# Altium footprint library KF2510_母座.PcbLib: 10 footprints
Each footprint in its own frame and in the unit in brackets; x right, y up, seen from the top. Pads: shape width x height; smd on the part's side, far side on the other; paste and mask are expansions set on the pad; w line width, h text height; cw(c..) or ccw(c..) is an arc to the next point about the centre after c.
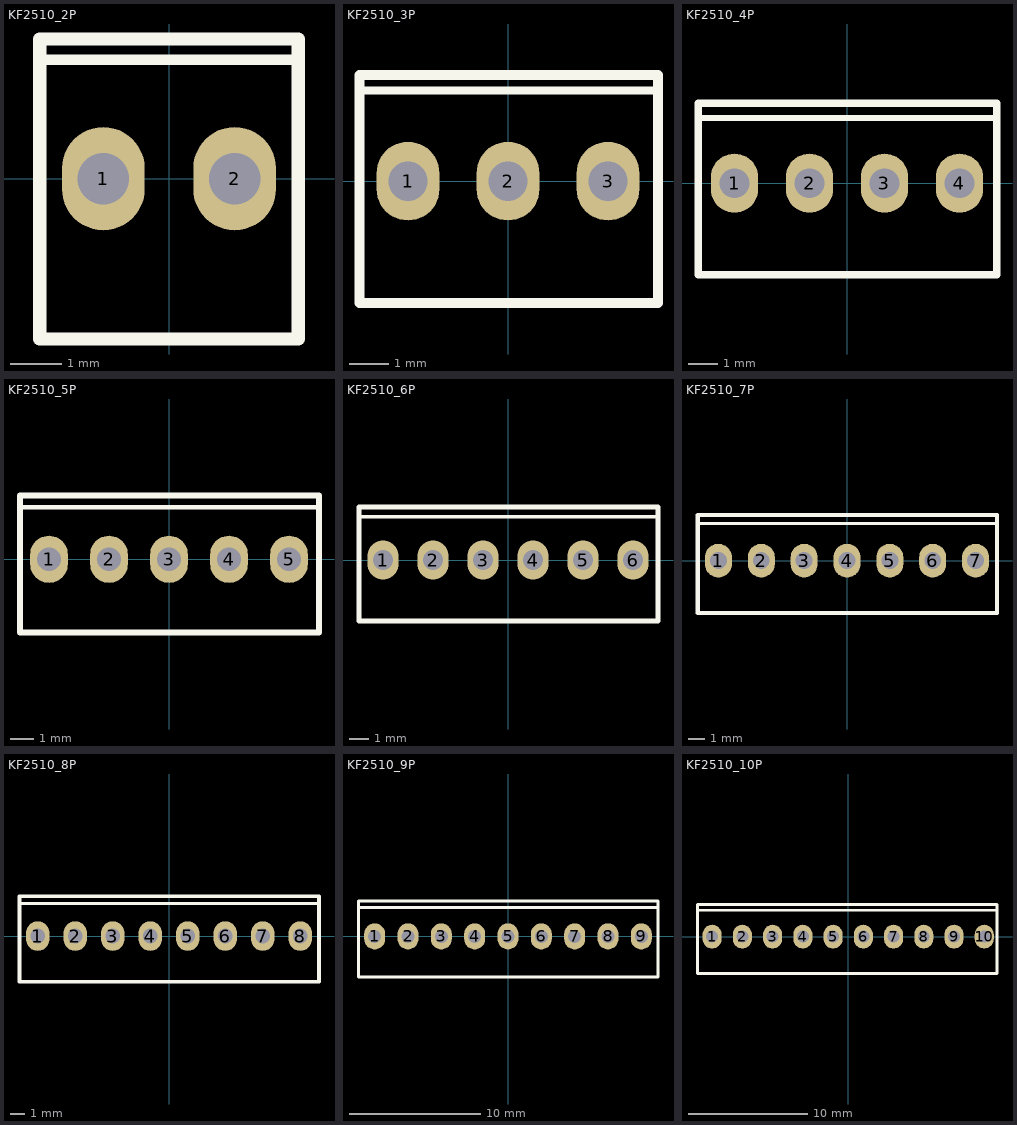
[diagram p0: the footprints below, top view; thin cyan lines are the x and y axes]

## KF2510_2P [mm]
pads (2):
  oval 1.6x2 hole 1: 1(-1.27,0) 2(1.27,0)
Top Overlay:
  lines w0.2: -2.5,2.3 2.5,2.3
  lines w0.254: -2.5,-3.1 2.5,-3.1 2.5,2.7 -2.5,2.7 -2.5,-3.1
Mechanical 15:
  lines w0.1: -2.54,-3.1 2.54,-3.1 2.54,2.7 -2.54,2.7 -2.54,-3.1
3D body "Header-KF2510-2.54-2.step": height 11.73, standoff -2.55, extent -2.6,-3.175 2.6,2.725

## KF2510_3P [mm]
pads (3):
  oval 1.6x2 hole 1: 1(-2.54,0) 2(0,0) 3(2.54,0)
Top Overlay:
  lines w0.2: -3.77,2.3 3.81,2.3
  lines w0.254: -3.77,-3.1 3.81,-3.1 3.81,2.7 -3.77,2.7 -3.77,-3.1
Mechanical 15:
  lines w0.1: -3.81,-3.1 3.81,-3.1 3.81,2.7 -3.81,2.7 -3.81,-3.1
3D body "Header-KF2510-2.54-3.step": height 11.73, standoff -3, extent -3.895,-3.2 3.905,2.7

## KF2510_4P [mm]
pads (4):
  oval 1.6x2 hole 1: 1(-3.81,0) 2(-1.27,0) 3(1.27,0) 4(3.81,0)
Top Overlay:
  lines w0.2: -5.04,2.2 5.08,2.2
  lines w0.254: -5.04,-3.1 5.08,-3.1 5.08,2.7 -5.04,2.7 -5.04,-3.1
Mechanical 15:
  lines w0.1: -5.08,-3.1 5.08,-3.1 5.08,2.7 -5.08,2.7 -5.08,-3.1
3D body "Header-KF2510-2.54-4.step": height 11.73, standoff -2.55, extent -5.09,-3.2 5.07,2.7

## KF2510_5P [mm]
pads (5):
  oval 1.6x2 hole 1: 1(-5.08,0) 2(-2.54,0) 3(0,0) 4(2.54,0) 5(5.08,0)
Top Overlay:
  lines w0.2: -6.31,2.2 6.35,2.2
  lines w0.254: -6.31,-3.1 -6.31,2.7 6.35,2.7 6.35,-3.1 -6.31,-3.1
Mechanical 15:
  lines w0.1: -6.35,-3.1 -6.35,2.7 6.35,2.7 6.35,-3.1 -6.35,-3.1
3D body "Header-KF2510-2.54-3.step": height 11.73, standoff -3, extent -1.325,-3.175 6.475,2.725
3D body "Header-KF2510-2.54-2.step": height 11.73, standoff -2.55, extent -6.4,-3.175 -1.2,2.725

## KF2510_6P [mm]
pads (6):
  oval 1.6x2 hole 1: 1(-6.35,0) 2(-3.81,0) 3(-1.27,0) 4(1.27,0) 5(3.81,0) 6(6.35,0)
Top Overlay:
  lines w0.2: -7.58,2.2 7.62,2.2
  lines w0.254: -7.58,-3.1 -7.58,2.7 7.62,2.7 7.62,-3.1 -7.58,-3.1
Mechanical 15:
  lines w0.1: -7.62,-3.1 -7.62,2.7 7.62,2.7 7.62,-3.1 -7.62,-3.1
3D body "Header-KF2510-2.54-3.step": height 11.73, standoff -3, extent -7.68,-3.15 0.12,2.75
3D body "Header-KF2510-2.54-3.step": height 11.73, standoff -3, extent -0.075,-3.15 7.725,2.75

## KF2510_7P [mm]
pads (7):
  oval 1.6x2 hole 1: 1(-7.62,0) 2(-5.08,0) 3(-2.54,0) 4(0,0) 5(2.54,0) 6(5.08,0) 7(7.62,0)
Top Overlay:
  lines w0.2: -8.85,2.2 8.89,2.2
  lines w0.254: -8.85,-3.1 -8.85,2.7 8.89,2.7 8.89,-3.1 -8.85,-3.1
Mechanical 15:
  lines w0.1: -8.89,-3.1 -8.89,2.7 8.89,2.7 8.89,-3.1 -8.89,-3.1
3D body "Header-KF2510-2.54-3.step": height 11.73, standoff -3, extent 1.175,-3.175 8.975,2.725
3D body "Header-KF2510-2.54-4.step": height 11.73, standoff -2.55, extent -8.91,-3.175 1.25,2.725

## KF2510_8P [mm]
pads (8):
  oval 1.6x2 hole 1: 1(-8.89,0) 2(-6.35,0) 3(-3.81,0) 4(-1.27,0) 5(1.27,0) 6(3.81,0) 7(6.35,0) 8(8.89,0)
Top Overlay:
  lines w0.2: -10.12,2.2 10.06,2.2
  lines w0.254: -10.12,-3.1 10.16,-3.1 10.16,2.7 -10.12,2.7 -10.12,-3.1
Mechanical 15:
  lines w0.1: -10.16,-3.1 10.16,-3.1 10.16,2.7 -10.16,2.7 -10.16,-3.1
3D body "Header-KF2510-2.54-4.step": height 11.73, standoff -2.55, extent -0.025,-3.2 10.135,2.7
3D body "User Library-WF-4.step": height 11.73, standoff -2.55, extent -10.16,-3.2 0,2.7

## KF2510_9P [mm]
pads (9):
  oval 1.6x2 hole 1: 1(-10.16,0) 2(-7.62,0) 3(-5.08,0) 4(-2.54,0) 5(0,0) 6(2.54,0) 7(5.08,0) 8(7.62,0) 9(10.16,0)
Top Overlay:
  lines w0.2: -11.39,2.2 11.43,2.2
  lines w0.254: -11.39,-3.1 11.43,-3.1 11.43,2.7 -11.39,2.7 -11.39,-3.1
Mechanical 15:
  lines w0.1: -11.43,-3.1 11.43,-3.1 11.43,2.7 -11.43,2.7 -11.43,-3.1
3D body "User Library-WF-4.step": height 11.73, standoff -2.55, extent -11.43,-3.2 -1.27,2.7
3D body "Header-KF2510-2.54-2.step": height 11.73, standoff -2.55, extent -1.305,-3.2 3.895,2.7
3D body "Header-KF2510-2.54-3.step": height 11.73, standoff -3, extent 3.725,-3.2 11.525,2.7

## KF2510_10P [mm]
pads (10):
  oval 1.6x2 hole 1: 1(-11.43,0) 2(-8.89,0) 3(-6.35,0) 4(-3.81,0) 5(-1.27,0) 6(1.27,0) 7(3.81,0) 8(6.35,0) 9(8.89,0) 10(11.43,0)
Top Overlay:
  lines w0.2: -12.66,2.2 12.4,2.2
  lines w0.254: -12.66,-3.1 -12.66,2.7 12.5,2.7 12.5,-3.1 -12.66,-3.1
Mechanical 15:
  lines w0.1: -12.7,-3.1 -12.7,2.7 12.5,2.7 12.5,-3.1 -12.7,-3.1
3D body "User Library-WF-10.step": height 11.73, standoff -2.55, extent -12.71,-3.175 12.69,2.725

## PCBComponent_1 [mm]